# Altium footprint library ECS802020BMENTR.PcbLib: 1 footprints
Each footprint in its own frame and in the unit in brackets; x right, y up, seen from the top. Pads: shape width x height; smd on the part's side, far side on the other; paste and mask are expansions set on the pad; w line width, h text height; cw(c..) or ccw(c..) is an arc to the next point about the centre after c.
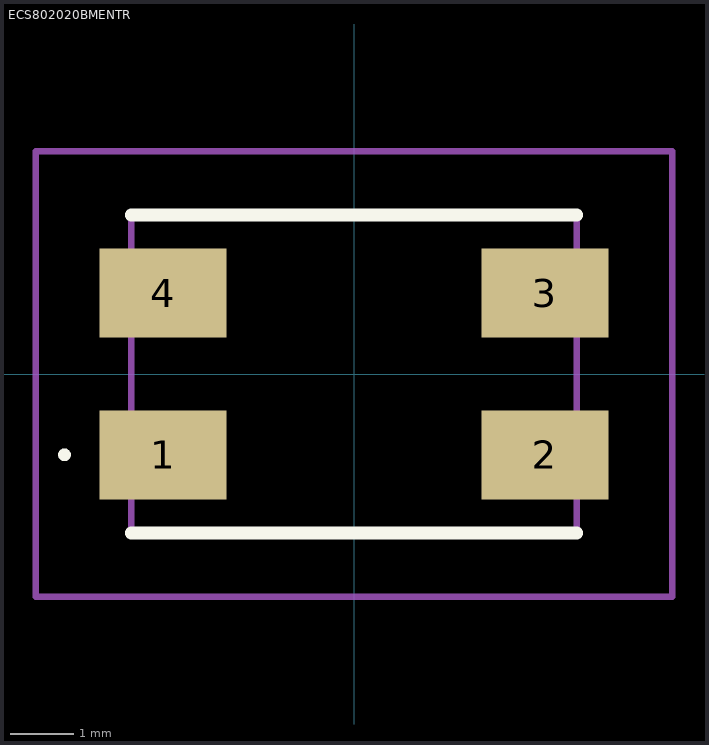
[diagram p0: the footprint, top view; thin cyan lines are the x and y axes]

## ECS802020BMENTR [mm]
pads (4):
  rect 2x1.4 smd: 1(-3,-1.27) 2(3,-1.27) 3(3,1.27) 4(-3,1.27)
Top Overlay:
  lines w0.1: -4.6,-1.27 -4.6,-1.27 ; -4.6,-1.27 ccw(c-4.55,-1.27) -4.5,-1.27 ; -4.6,-1.27 cw(c-4.55,-1.27) -4.5,-1.27 ; -4.5,-1.27 -4.5,-1.27
  lines w0.2: -3.5,-2.5 3.5,-2.5 ; -3.5,2.5 3.5,2.5
Mechanical 15:
  lines w0.1: -3.5,-2.5 3.5,-2.5 3.5,2.5 -3.5,2.5 -3.5,-2.5
Mechanical 20:
  lines w0.1: -5,-3.5 5,-3.5 5,3.5 -5,3.5 -5,-3.5